# Altium footprint library Airpurity.PcbLib: 24 footprints (part 1 of 2)
Each footprint in its own frame and in the unit in brackets; x right, y up, seen from the top. Pads: shape width x height; smd on the part's side, far side on the other; paste and mask are expansions set on the pad; w line width, h text height; cw(c..) or ccw(c..) is an arc to the next point about the centre after c.
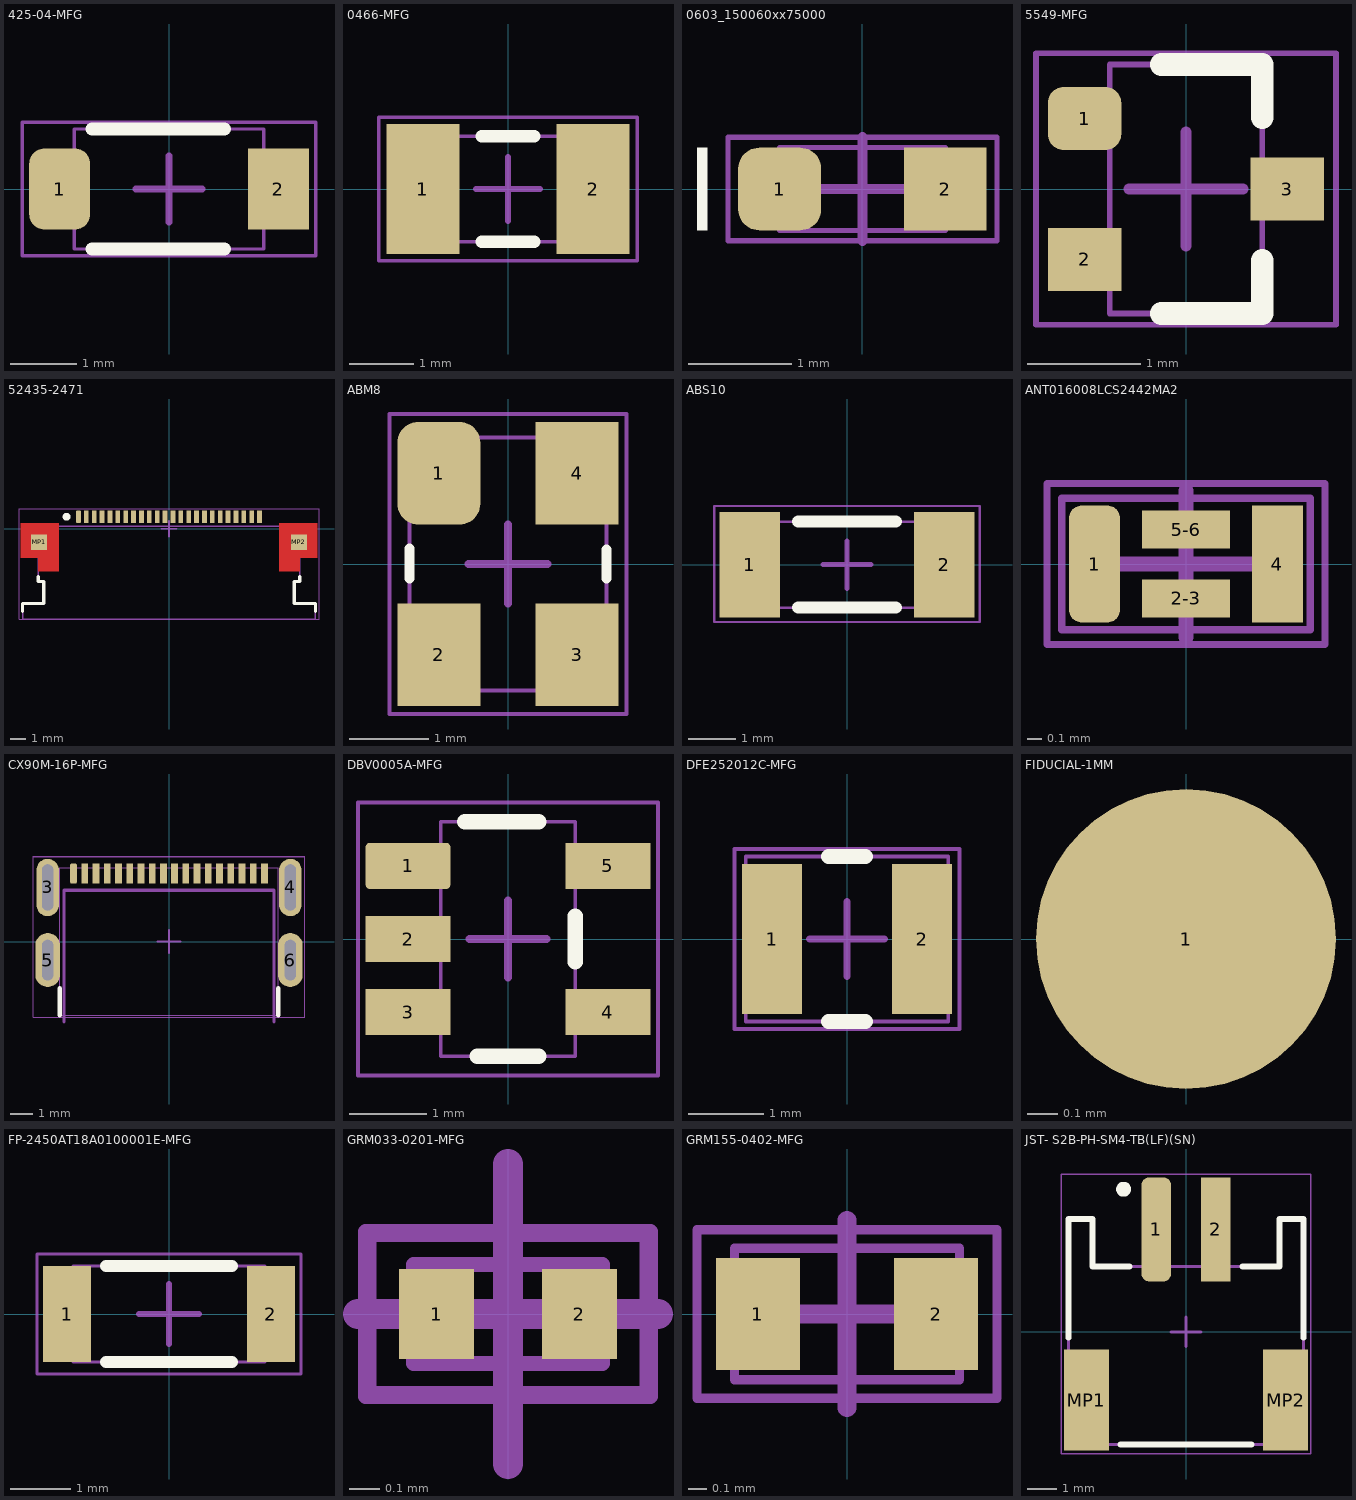
[diagram p0: the footprints below, top view; thin cyan lines are the x and y axes]

## 425-04-MFG [mil]
pads (2):
  rrect50% 36x48 smd: 1(-64.5,0)
  rect 36x48 smd: 2(64.5,0)
Top Overlay:
  lines w7.87: -45.29,-35.43 32.66,-35.43 ; -45.29,35.43 32.66,35.43
Top Assembly:
  lines w1.97: -86.61,-39.37 86.61,-39.37 86.61,39.37 -86.61,39.37 -86.61,-39.37
Top 3D Body:
  lines w1.97: -55.91,-35.43 -55.91,35.43 55.91,35.43 55.91,-35.43 -55.91,-35.43
Top Courtyard:
  lines w1.97: -86.61,-39.37 86.61,-39.37 86.61,39.37 -86.61,39.37 -86.61,-39.37
Top Component Center:
  lines w3.94: -19.68,0 19.68,0 ; 0,-19.68 0,19.68
3D body "Diode_ON_Semiconductor_SZMMSZ5264BT1G_eec.STEP": height 10, standoff 0, extent -86.44,-39.37 86.44,39.37

## 0466-MFG [mil]
pads (2):
  rect 45x80 smd: 1(-52.5,0) 2(52.5,0)
Top Overlay:
  lines w7.87: -16.16,-32.5 16.16,-32.5 ; -16.16,32.5 16.16,32.5
Top Assembly:
  lines w1.97: -79.72,-44.29 -79.72,44.29 79.72,44.29 79.72,-44.29 -79.72,-44.29
Top 3D Body:
  lines w1.97: -65,-32.5 -65,32.5 65,32.5 65,-32.5 -65,-32.5
Top Courtyard:
  lines w1.97: -79.72,-44.29 -79.72,44.29 79.72,44.29 79.72,-44.29 -79.72,-44.29
Top Component Center:
  lines w3.94: -19.68,0 19.68,0 ; 0,-19.68 0,19.68
3D body "Fuse_Littelfuse_Inc_0466_250NR_eec.STEP": height 10, standoff 0, extent -78.94,-43.94 78.94,43.94

## 0603_150060xx75000 [mm] "SMD Mono-color Chip LED, body 1.6x0.8mm"
height 0.7
pads (2):
  rrect50% 0.8x0.8 smd: 1(-0.8,0)
  rect 0.8x0.8 smd: 2(0.8,0)
Top Overlay:
  region: -1.5,-0.4 -1.598,-0.4 -1.598,0.4 -1.5,0.4
Top 3D Body:
  lines w0.05: -0.8,-0.4 0.8,-0.4 0.8,0.4 -0.8,0.4 -0.8,-0.4
Top Courtyard:
  lines w0.05: -1.3,-0.5 -1.3,0.5 1.3,0.5 1.3,-0.5 -1.3,-0.5
Top Component Center:
  lines w0.1: -0.5,0 0.5,0 ; 0,-0.5 0,0.5
3D body "150060xxx.stp": height 0.7, standoff 0, extent -0.8,-0.4 0.8,0.4

## 5549-MFG [mm]
pads (3):
  rrect50% 0.648x0.559 smd: 1(-0.895,0.623)
  rect 0.648x0.559 smd: 2(-0.895,-0.623) 3(0.895,0)
Top Overlay:
  lines w0.2: -0.22,-1.1 0.675,-1.1 0.675,-0.631 ; -0.22,1.1 0.675,1.1 0.675,0.631
Top Assembly:
  lines w0.05: -1.325,-1.2 -1.325,1.2 1.325,1.2 1.325,-1.2 -1.325,-1.2
Top 3D Body:
  lines w0.05: -0.675,-1.1 -0.675,1.1 0.675,1.1 0.675,-1.1 -0.675,-1.1
Top Courtyard:
  lines w0.05: -1.325,-1.2 -1.325,1.2 1.325,1.2 1.325,-1.2 -1.325,-1.2
Top Component Center:
  lines w0.1: -0.5,0 0.5,0 ; 0,-0.5 0,0.5
3D body "Trans_Vishay_SI1308EDL-T1-GE3_eec.STEP": height 0.25, standoff 0, extent -1.319,-1.2 1.319,1.2

## 52435-2471 [mm] "FPC Connector, 24-Leads, Right Angle, Pitch 0.5 mm, Mated Height 2.0 mm, SMT"
height 2.05
pads (26):
  rrect50% 0.3x0.8 smd: 1(-5.75,0.762)
  rect 0.3x0.8 smd: 2(-5.25,0.762) 3(-4.75,0.762) 4(-4.25,0.762) 5(-3.75,0.762) 6(-3.25,0.762) 7(-2.75,0.762) 8(-2.25,0.762) 9(-1.75,0.762) 10(-1.25,0.762) 11(-0.75,0.762) 12(-0.25,0.762) 13(0.25,0.762) 14(0.75,0.762) 15(1.25,0.762) 16(1.75,0.762) 17(2.25,0.762) 18(2.75,0.762) 19(3.25,0.762) 20(3.75,0.762) 21(4.25,0.762) 22(4.75,0.762) 23(5.25,0.762) 24(5.75,0.762)
  rect 1x1 smd: MP1(-8.25,-0.863) MP2(8.25,-0.863)
Top Layer:
  region: -7,0.362 -9.4,0.362 -9.4,-1.838 -8.3,-1.838 -8.3,-2.688 -7,-2.688
  region: 7,0.362 9.4,0.362 9.4,-1.838 8.3,-1.838 8.3,-2.688 7,-2.688
Top Overlay:
  circle w0.25: c-6.5,0.762 r0.125
  lines w0.2: -9.3,-5.238 -9.3,-4.738 -7.95,-4.738 -7.95,-3.338 -8.3,-3.338 ; -8.3,-3.338 -8.3,-3.04 ; 8.3,-3.338 8.3,-3.04 ; 8.3,-3.338 7.95,-3.338 7.95,-4.738 9.3,-4.738 9.3,-5.238
Top 3D Body:
  lines w0.1: -8.3,-3.338 -7.95,-3.338 ; -8.3,-3.338 -8.3,0.162 8.3,0.162 8.3,-3.338 ; -7.95,-3.338 -7.95,-4.738 -9.3,-4.738 -9.3,-5.75 9.3,-5.75 9.3,-4.738 7.95,-4.738 7.95,-3.338 ; 7.95,-3.338 8.3,-3.338
Top Courtyard:
  lines w0.05: -9.525,-5.75 -9.525,1.275 9.525,1.275 9.525,-5.75 -9.525,-5.75
Top Component Center:
  lines w0.1: -0.5,0 0.5,0 ; 0,-0.5 0,0.5
3D body "524352471.stp": height 2.05, standoff 0, extent -9.3,-5.738 9.3,0.862

## ABM8 [mm]
height 0.8
pads (4):
  rrect50% 1.05x1.3 smd: 1(-0.875,1.15)
  rect 1.05x1.3 smd: 2(-0.875,-1.15) 3(0.875,-1.15) 4(0.875,1.15)
Top Overlay:
  lines w0.127: -1.25,-0.185 -1.25,0.196 ; 1.25,-0.185 1.25,0.185
Top 3D Body:
  lines w0.05: -1.25,-1.6 -1.25,1.6 1.25,1.6 1.25,-1.6 -1.25,-1.6
Top Courtyard:
  lines w0.05: -1.5,-1.9 -1.5,1.9 1.5,1.9 1.5,-1.9 -1.5,-1.9
Top Component Center:
  lines w0.1: -0.5,0 0.5,0 ; 0,-0.5 0,0.5
3D body "step_temp.STEP": height 0.8, standoff 0, extent -1.25,-1.6 1.25,1.6

## ABS10 [mil]
pads (2):
  rect 50x87 smd: 1(-80,0) 2(80,0)
Top Overlay:
  lines w10: -40.09,-35.43 40.09,-35.43 ; -40.09,35.43 40.09,35.43
Top 3D Body:
  lines w1.97: -96.46,-35.43 96.46,-35.43 96.46,35.43 -96.46,35.43 -96.46,-35.43
Top Courtyard:
  lines w1.97: -109.25,-47.24 109.25,-47.24 109.25,48.23 -109.25,48.23 -109.25,-47.24
Top Component Center:
  lines w3.94: -19.68,0 19.68,0 ; 0,-19.68 0,19.68
3D body "ABS10-32.768KHZ--3DModel-STEP-400430.STEP": height 40.55, standoff 1.18, extent -96.46,-35.43 96.46,35.43

## ANT016008LCS2442MA2 [mm]
pads (4):
  rrect50% 0.35x0.8 smd paste+0 mask+0: 1(-0.625,0)
  rect 0.6x0.26 smd paste+0 mask+0: 2-3(0,-0.235) 5-6(0,0.235)
  rect 0.35x0.8 smd paste+0 mask+0: 4(0.625,0)
Top Assembly:
  lines w0.05: -0.95,-0.55 -0.95,0.55 0.95,0.55 0.95,-0.55 -0.95,-0.55
Top 3D Body:
  lines w0.05: -0.85,-0.45 -0.85,0.45 0.85,0.45 0.85,-0.45 -0.85,-0.45
Top Courtyard:
  lines w0.05: -0.95,-0.55 -0.95,0.55 0.95,0.55 0.95,-0.55 -0.95,-0.55
Top Component Center:
  lines w0.1: -0.5,0 0.5,0 ; 0,-0.5 0,0.5
3D body "Ant_TDK_Corporation_ANT016008LCS2442MA2_eec.STEP": height 0.25, standoff 0, extent -0.95,-0.55 0.95,0.55

## CX90M-16P-MFG [mm]
pads (22):
  rrect50% 0.3x0.9 smd: 1(-4.25,3.025)
  rect 0.3x0.9 smd: 2(4.25,3.025) A1(-3.75,3.025) A4(-2.75,3.025) A5(-1.75,3.025) A6(-0.75,3.025) A7(0.75,3.025) A8(1.75,3.025) A9(2.75,3.025) A12(3.75,3.025) B1(3.25,3.025) B4(2.25,3.025) B5(1.25,3.025) B6(0.25,3.025) B7(-0.25,3.025) B8(-1.25,3.025) B9(-2.25,3.025) B12(-3.25,3.025)
  rrect100% 1x2.55 hole 2.05 slot 0.5 at 0 deg paste-2539.97 mask+0: 3(-5.4,2.405) 4(5.4,2.405)
  rrect100% 1.1x2.4 hole 1.8 slot 0.5 at 0 deg paste-2539.97 mask+0: 5(-5.4,-0.825) 6(5.4,-0.825)
Top Overlay:
  lines w0.2: -4.87,-3.275 -4.87,-2.074 ; 4.87,-3.275 4.87,-2.074
Board Outline:
  lines w0.15: -4.675,-3.575 -4.675,2.275 4.675,2.275 4.675,-3.575
Top Assembly:
  lines w0.05: -6.05,-3.375 -6.05,3.78 6.05,3.78 6.05,-3.375 -6.05,-3.375
Top 3D Body:
  lines w0.05: -4.87,-3.275 4.87,-3.275 4.87,3.275 -4.87,3.275 -4.87,-3.275
Top Courtyard:
  lines w0.05: -6.05,-3.375 -6.05,3.8 6.05,3.8 6.05,-3.375 -6.05,-3.375
Top Component Center:
  lines w0.1: -0.5,0 0.5,0 ; 0,-0.5 0,0.5
3D body "Conn_Hirose_CX90M-16P_eec.STEP": height 0.25, standoff 0, extent -6.05,-3.375 6.05,3.78

## DBV0005A-MFG [mm]
pads (5):
  rrect17% 1.1x0.6 smd: 1(-1.3,0.95)
  rect 1.1x0.6 smd: 2(-1.3,0) 3(-1.3,-0.95) 4(1.3,-0.95) 5(1.3,0.95)
Top Overlay:
  lines w0.2: -0.565,1.525 0.398,1.525 ; -0.398,-1.525 0.398,-1.525 ; 0.875,-0.298 0.875,0.298
Top Assembly:
  lines w0.05: -1.95,-1.775 1.95,-1.775 1.95,1.775 -1.95,1.775 -1.95,-1.775
Top 3D Body:
  lines w0.05: -0.875,-1.525 0.875,-1.525 0.875,1.525 -0.875,1.525 -0.875,-1.525
Top Courtyard:
  lines w0.05: -1.95,-1.775 -1.95,1.775 1.95,1.775 1.95,-1.775 -1.95,-1.775
Top Component Center:
  lines w0.1: -0.5,0 0.5,0 ; 0,-0.5 0,0.5
3D body "IC_Texas_Instruments_SN65LVDT2DBVT_eec.STEP": height 0.25, standoff 0, extent -1.95,-1.775 1.95,1.775

## DFE252012C-MFG [mm]
pads (2):
  rect 0.8x2 smd: 1(-1,0) 2(1,0)
Top Overlay:
  lines w0.2: -0.248,-1.1 0.248,-1.1 ; -0.248,1.1 0.248,1.1
Top Assembly:
  lines w0.05: -1.5,-1.2 -1.5,1.2 1.5,1.2 1.5,-1.2 -1.5,-1.2
Top 3D Body:
  lines w0.05: -1.35,-1.1 -1.35,1.1 1.35,1.1 1.35,-1.1 -1.35,-1.1
Top Courtyard:
  lines w0.05: -1.5,-1.2 -1.5,1.2 1.5,1.2 1.5,-1.2 -1.5,-1.2
Top Component Center:
  lines w0.1: -0.5,0 0.5,0 ; 0,-0.5 0,0.5
3D body "Ind_Murata_DFE252012F-4R7M=P2_eec.STEP": height 0.25, standoff 0, extent -1.5,-1.2 1.5,1.2

## FIDUCIAL-1MM [mm] "1MM FIDUCAL MARKER"
pads (1):
  round 1 smd paste+0 mask+0.5: 1(0,0)

## FP-2450AT18A0100001E-MFG [mm]
pads (2):
  rect 0.8x1.6 smd paste+0 mask+0: 1(-1.7,0) 2(1.7,0)
Top Overlay:
  lines w0.2: -1.05,-0.8 1.05,-0.8 ; -1.05,0.8 1.05,0.8
Top Assembly:
  lines w0.05: -2.2,-1 -2.2,1 2.2,1 2.2,-1 -2.2,-1
Top 3D Body:
  lines w0.05: -1.6,-0.8 -1.6,0.8 1.6,0.8 1.6,-0.8 -1.6,-0.8
Top Courtyard:
  lines w0.05: -2.2,-1 2.2,-1 2.2,1 -2.2,1 -2.2,-1
Top Component Center:
  lines w0.1: -0.5,0 0.5,0 ; 0,-0.5 0,0.5
3D body "Ant_Johanson_Technology_2450AT18A0100001E_eec.STEP": height 0.25, standoff 0, extent -2.2,-1 2.2,1

## GRM033-0201-MFG [mm]
pads (2):
  rect 0.25x0.3 smd: 1(-0.238,0) 2(0.238,0)
Top Assembly:
  lines w0.05: -0.463,-0.265 -0.463,0.265 0.463,0.265 0.463,-0.265 -0.463,-0.265
Top 3D Body:
  lines w0.05: -0.315,-0.165 -0.315,0.165 0.315,0.165 0.315,-0.165 -0.315,-0.165
Top Courtyard:
  lines w0.05: -0.475,-0.275 -0.475,0.275 0.475,0.275 0.475,-0.275 -0.475,-0.275
Top Component Center:
  lines w0.1: -0.5,0 0.5,0 ; 0,-0.5 0,0.5
3D body "Cap_Murata_GRM0335C1HR30BA01D_eec.STEP": height 0.25, standoff 0, extent -0.463,-0.265 0.463,0.265

## GRM155-0402-MFG [mm]
pads (2):
  rect 0.45x0.6 smd: 1(-0.475,0) 2(0.475,0)
Top Assembly:
  lines w0.05: -0.8,-0.45 0.8,-0.45 0.8,0.45 -0.8,0.45 -0.8,-0.45
Top 3D Body:
  lines w0.05: -0.6,-0.35 0.6,-0.35 0.6,0.35 -0.6,0.35 -0.6,-0.35
Top Courtyard:
  lines w0.05: -0.8,-0.45 0.8,-0.45 0.8,0.45 -0.8,0.45 -0.8,-0.45
Top Component Center:
  lines w0.1: -0.5,0 0.5,0 ; 0,-0.5 0,0.5
3D body "Cap_Murata_GRM155R61E225KE11D_eec.STEP": height 0.25, standoff 0, extent -0.8,-0.45 0.8,0.45

## JST- S2B-PH-SM4-TB(LF)(SN) [mm]
height 5.5
pads (4):
  rrect50% 1x3.5 smd: 1(-1,3.45)
  rect 1x3.5 smd: 2(1,3.45)
  rect 1.5x3.4 smd: MP1(-3.35,-2.3) MP2(3.35,-2.3)
Top Overlay:
  circle w0.25: c-2.1,4.8 r0.125
  lines w0.2: -3.95,-0.2 -3.95,3.8 -3.15,3.8 -3.15,2.2 -1.9,2.2 ; -2.2,-3.8 2.2,-3.8 ; 1.9,2.2 3.15,2.2 3.15,3.8 3.95,3.8 3.95,-0.2
Top 3D Body:
  lines w0.1: -3.95,-3 -3.45,-3 -3.45,-3.8 3.45,-3.8 3.45,-3 3.95,-3 3.95,3.8 3.15,3.8 3.15,2.2 -3.15,2.2 -3.15,3.8 -3.95,3.8 -3.95,-3
Top Courtyard:
  lines w0.05: -4.2,-4.1 -4.2,5.3 4.2,5.3 4.2,-4.1 -4.2,-4.1
Top Component Center:
  lines w0.1: -0.5,0 0.5,0 ; 0,-0.5 0,0.5
3D body "S2B-PH-SM4-TB(LF)(SN)--3DModel-STEP-56544.STEP": height 5.6, standoff 0, extent -3.95,-3.8 3.95,4.8